# Altium schematic symbol library Conn_Sullins_PPTC141LFBN-RC_eec.SchLib: 1 symbol
Pins are listed as number, name and electrical type; pins without a type are passive.

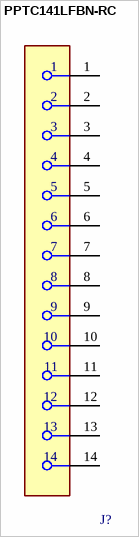
[diagram p0: symbol PPTC141LFBN-RC]

## PPTC141LFBN-RC
designator J?  (value not drawn)
pins: 1, 2, 3, 4, 5, 6, 7, 8, 9, 10, 11, 12, 13, 14